# EAGLE library part CLOCK_CRYSTAL_SPECIAL_1 (library mylib_20130829)
CLOCK SOURCE : CERALOCK / CRYSTAL
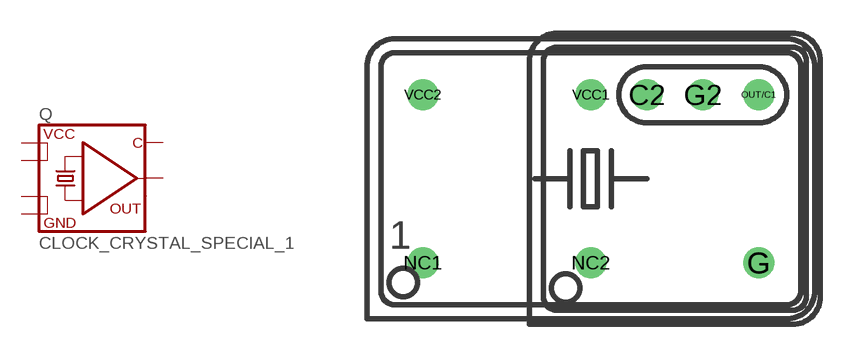
[diagram p12: symbol with the pads of CLOCK_DIL14S; footprint CLOCK_DIL14S]

Designator prefix Q

## CLOCK_CRYSTAL_SPECIAL_1  [CLOCK_DIL14S]
C2  C
G  GND
G2  GND
OUT/C1  OUT
VCC1  VCC
VCC2  VCC

## Footprint CLOCK_DIL14S (pad centres in mm)
CRYSTAL RESONATOR
drill 0.889: C2 2.54,3.81; G 7.62,-3.81; G2 5.08,3.81; NC1 -7.62,-3.81; NC2 0,-3.81; OUT/C1 7.62,3.81; VCC1 0,3.81; VCC2 -7.62,3.81